# Altium footprint library TVI-30-RM6-LP.PcbLib: 13 footprints (part 2 of 3)
Each footprint in its own frame and in the unit in brackets; x right, y up, seen from the top. Pads: shape width x height; smd on the part's side, far side on the other; paste and mask are expansions set on the pad; w line width, h text height; cw(c..) or ccw(c..) is an arc to the next point about the centre after c.
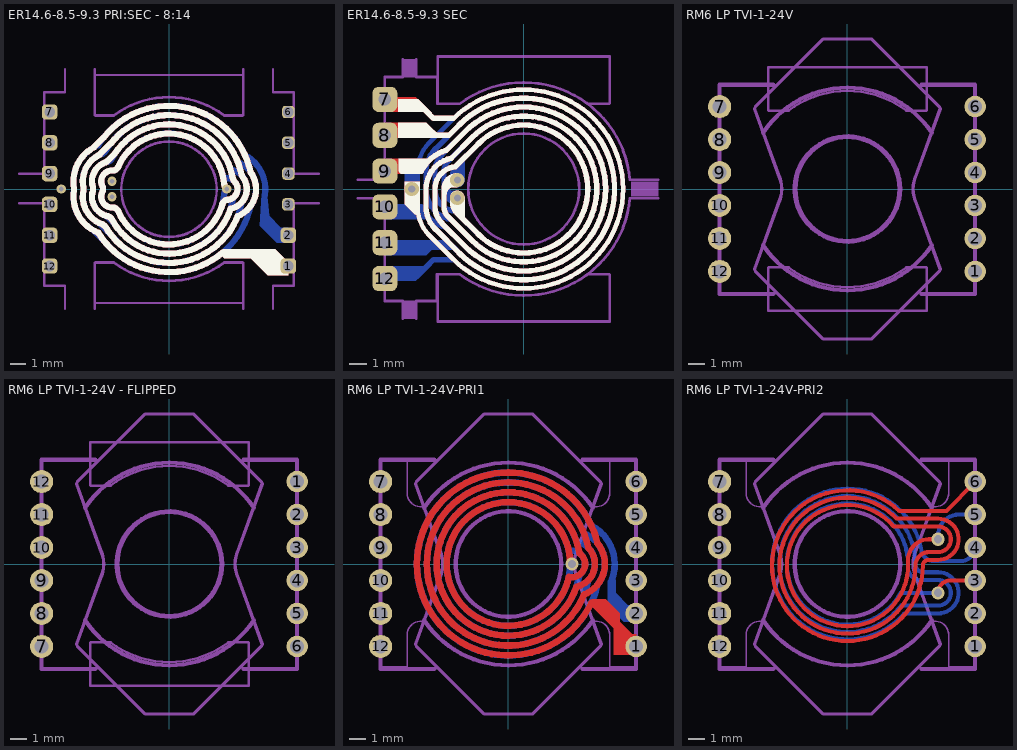
[diagram p1: the footprints below, top view; thin cyan lines are the x and y axes]

## ER14.6-8.5-9.3 PRI:SEC - 8:14 [mm]
pads (12):
  rrect50% 1x1 hole 0.7: 1(7.75,-5) 2(7.75,-3) 7(-7.75,5) 8(-7.75,3) 9(-7.75,1) 10(-7.75,-1) 11(-7.75,-3) 12(-7.75,-5)
  rrect50% 0.8x0.8 hole 0.7: 3(7.75,-1) 4(7.75,1) 5(7.75,3) 6(7.75,5)
via -3.7,0.5 diameter 0.6 hole 0.3
via 3.75,0 diameter 0.6 hole 0.3
via -7,0 diameter 0.6 hole 0.3
via -3.7,-0.5 diameter 0.6 hole 0.3
Top Layer:
  region: 3.5,-3.9 6.9,-3.9 7.75,-4.75 7.75,-5.6 6.4,-5.6 5.3,-4.5 3.6,-4.5 3.5,-4.4
  lines w0.4: -5.599,0.444 cw(c-3.7,0.5) -4.65,2.146 ; -5.585,0.742 ccw(c-3.7,0.5) -5.554,0.087 cw(c-5.945,0) -5.554,-0.087 ccw(c-3.7,-0.5) -4.33,-2.293 cw(c-4.462,-2.67) -4.119,-2.465 ccw(c0,0) -3.907,-2.789 ; -4.775,2.067 cw(c-3.7,0.5) -4.583,2.182 ccw(c-4.769,2.537) -4.486,2.254 -3.775,2.965 cw(c0,0) 3.101,3.664 cw(c0,0) 4.703,0.96 ; -3.932,-2.753 ccw(c0,0) 3.677,-3.085 ccw(c2.183,-1.591) 4.063,-2.556 ccw(c0,0) 4.466,-1.76 ccw(c3.75,0) 5.282,1.124 ccw(c0,0) 0.46,5.38 ccw(c0,0) -4.21,3.381 cw(c-4.522,3.632) -4.24,3.348 -4.666,2.922 -4.889,2.699 ccw(c-3.7,0.5) -6.199,0.426 ; 3.481,-4.128 cw(c0,0) -4.597,-2.833 cw(c-3.7,-0.5) -6.165,-0.081 ccw(c-6.559,-0.014) -6.165,0.058 cw(c-4.148,0.426) -6.199,0.426 ; 3.75,0 cw(c3.987,0.322) 3.588,0.29 ; -6.199,0.426 -6.199,0.426 ; -4.999,0.462 ccw(c-3.7,0.5) -4.942,0.118 cw(c-5.325,0) -4.942,-0.118 ; -4.999,0.462 cw(c-3.7,0.5) -4.156,1.717 ; -4.999,0.462 -4.999,0.462 ; -4.942,-0.118 ccw(c-3.7,-0.5) -4.099,-1.737 ccw(c-3.7,-0.5) -3.976,-1.77 cw(c-4.061,-2.161) -3.708,-1.973 ccw(c0,0) 4.002,-1.275 ccw(c3.75,0) 4.779,0.795 cw(c5.095,1.04) 4.703,0.96 ; -4.942,-0.118 -4.942,-0.118 ; -4.156,1.717 ccw(c-4.297,2.092) -4.014,1.809 -3.497,2.326 cw(c0,0) 4.141,0.704 ; -4.156,1.717 -4.156,1.717 ; -3.679,-1.2 cw(c-3.7,-0.5) -4.323,-0.182 ccw(c-4.68,0) -4.323,0.182 cw(c-3.7,0.5) -4.345,0.772 cw(c-3.7,0.5) -3.678,1.2 ccw(c-3.666,1.6) -3.3,1.44 cw(c0,0) 3.588,0.29 ; -3.679,-1.2 cw(c-3.666,-1.599) -3.3,-1.439 ccw(c0,0) 2.55,-2.541 ccw(c0,0) 3.462,-0.986 ; -3.679,-1.2 -3.679,-1.2 ; 3.462,-0.986 cw(c3.847,-1.096) 3.812,-0.697 ; 3.462,-0.986 3.462,-0.986 ; 3.588,0.29 3.588,0.29 ; 3.812,-0.697 ccw(c3.75,0) 4.25,0.49 ; 3.812,-0.697 3.812,-0.697 ; 4.141,0.704 ccw(c4.535,0.771) 4.25,0.49 ; 4.141,0.704 4.141,0.704 ; 4.25,0.49 4.25,0.49 ; 4.703,0.96 4.703,0.96 ; 2.438,-4.818 2.438,-4.818
  text "1-A" at 5.325,5 h1
  text "1-A" at 5.325,5 h1
Layer 1:
  region: -4.011,0.828 -4.034,0.805 -4.044,0.799 -4.051,0.789 -4.083,0.756 -4.101,0.714 -4.108,0.704 -4.11,0.692 -4.126,0.654 -4.132,0.644 -4.135,0.633 -4.152,0.59 -4.152,0.544 -4.155,0.532 -4.152,0.521 -4.152,0.48 -4.155,0.468 -4.152,0.456 -4.152,0.41 -4.135,0.367 -4.132,0.356 -4.126,0.346 -4.11,0.308 -4.108,0.296 -4.101,0.286 -4.083,0.244 -4.051,0.211 -4.044,0.201 -4.034,0.195 -4.005,0.166 -3.999,0.156 -3.989,0.149 -3.956,0.117 -3.937,0.108 -3.93,0.098 -3.929,0.098 -3.926,0.097 -3.915,0.09 -3.915,0.089 -3.914,0.089 -3.852,0.048 -3.805,0.038 -3.761,0.02 -3.336,0.02 -3.338,0 -3.323,-0.185 -3.323,-0.76 -3.426,-0.74 -3.592,-0.773 -3.591,-0.775 -3.592,-0.776 -3.594,-0.772 -3.7,-0.793 -3.726,-0.788 -3.727,-0.797 -3.726,-0.788 -3.812,-0.771 -3.907,-0.707 -3.971,-0.612 -3.993,-0.5 -3.98,-0.436 -3.992,-0.433 -3.992,-0.432 -3.992,-0.433 -3.972,-0.332 -4.008,-0.154 -4.109,-0.003 -4.132,0.012 -4.133,0.011 -4.13,0.014 -4.163,0.037 -4.274,0.202 -4.274,0.651 -4.056,0.87
  region: -3.034,1.371 -3.174,1.031 -3.297,0.522 -3.323,0.185 -3.761,0.185 -3.837,0.236 -3.837,0.235 -3.838,0.236 -3.834,0.244 -3.907,0.293 -3.971,0.388 -3.993,0.5 -3.971,0.612 -3.907,0.707 -3.812,0.771 -3.771,0.779 -3.774,0.79 -3.772,0.791 -3.772,0.79 -3.71,0.803 -3.674,0.827 -3.661,0.831 -3.54,0.9 -3.517,0.92 -3.44,0.971 -3.339,1.122 -3.334,1.148 -3.336,1.149 -3.336,1.15 -3.332,1.149 -3.179,1.517
  region: -5.898,0.063 -5.776,-0.34 -7.499,-0.34 -7.5,-0.34 -7.5,0.335 -5.925,0.335
  region: -4.945,-2.363 -4.558,-2.571 -4.399,-2.619 -4.394,-2.63 -4.378,-2.637 -4.059,-3.115 -3.618,-3.618 -3.538,-3.688 -3.55,-3.815 -7.8,-3.815 -7.8,-2.315 -5.004,-2.315
  region: -3.332,-4.342 -3.246,-4.399 -3.234,-4.525 -3.343,-4.634 -3.431,-4.575 -3.433,-4.578 -3.481,-4.546 -3.57,-4.528 -4.77,-4.528 -4.859,-4.546 -4.934,-4.596 -4.964,-4.626 -5.014,-4.701 -5.032,-4.79 -5.032,-5.565 -7.8,-5.565 -7.8,-3.98 -3.744,-3.98
  region: -5.577,-0.72 -5.565,-0.748 -5.548,-0.864 -5.548,-0.867 -5.44,-1.221 -5.266,-1.547 -5.032,-1.832 -4.814,-2.011 -4.821,-2.1 -4.94,-2.175 -4.953,-2.171 -5.004,-2.15 -7.8,-2.15 -7.8,-0.565 -5.66,-0.565
  lines w0.203: -7.75,-5 -7.75,-4.92 -7.363,-4.532 -7.363,-4.509 -7.244,-4.39 -3.518,-4.39 ccw(c0,0.3) 0,-5.563 ccw(c0,0) 5.011,-2.415 cw(c5.193,-2.505) 5.091,-2.329 ; -7.75,-3 ccw(c-7.412,-2.662) -7.412,-3.14 -6.994,-3.14 -4.239,-3.156 ; -7.75,-1 -6.195,-1 cw(c-6.195,-3.54) -5.708,-1.047 cw(c-5.748,-1.246) -5.557,-1.176 ccw(c-3.7,-0.5) -5.448,-1.422 ccw(c-3.7,-0.5) -4.286,-2.387 ccw(c-3.7,-0.5) -4.285,-2.388 cw(c-4.346,-2.582) -4.171,-2.477 ; -7,0 ccw(c-7,1.849) -6.137,0.214 ccw(c-6.233,0.393) -6.03,0.401 ; -4.965,0.481 ccw(c-3.7,0.5) -4.658,-0.327 cw(c-4.812,-0.459) -4.609,-0.466 ccw(c-3.7,-0.5) -3.657,-1.409 cw(c-3.648,-1.611) -3.462,-1.529 ccw(c0,0) -3.003,-2.304 ccw(c0,0) 3.506,-1.425 cw(c3.695,-1.5) 3.523,-1.391 ; -4.963,0.427 cw(c-3.7,0.5) -4.241,1.644 ccw(c-4.329,1.827) -4.142,1.747 cw(c0,0) -3.99,2.071 ; -3.973,2.103 cw(c0,0) -3.758,2.467 cw(c0,0) 4.22,1.551 cw(c3.75,0) 4.338,-1.51 ccw(c4.412,-1.7) 4.338,-1.511 cw(c3.75,0) 4.309,-1.521 ccw(c4.38,-1.712) 4.19,-1.64 cw(c3.523,-1.391) 4.175,-1.676 ccw(c4.362,-1.756) 4.172,-1.683 cw(c3.84,-1.557) 4.162,-1.706 ccw(c4.347,-1.79) 4.156,-1.723 ; -3.7,-0.5 cw(c-3.34,-0.14) -3.849,-0.161 ccw(c-4.052,-0.171) -3.957,0.009 cw(c-3.7,0.5) -3.837,1.037 ccw(c-3.888,1.233) -3.789,1.056 -3.668,1.125 ccw(c-3.77,1.301) -3.578,1.234 cw(c0,0) -3.375,1.712 cw(c0,0) -2.304,3.003 cw(c0,0) 3.636,1.052 ccw(c3.83,1.11) 3.814,0.907 cw(c3.75,0) 3.918,-0.894 ; -3.7,0.5 -3.324,0.876 ; 4.661,-1.754 cw(c3.75,0) 4.587,-1.791 ccw(c4.673,-1.974) 4.586,-1.791 ; 5.543,-1.491 cw(c3.75,0) 4.826,-2.069 ; 5.816,-1.719 cw(c3.75,0) 5.091,-2.329 ; -6.03,0.401 cw(c-3.7,0.5) -5.042,2.407 ccw(c-5.16,2.573) -4.979,2.481 cw(c0,0) -4.936,2.565 ; -6.03,0.401 -6.03,0.401 ; -4.936,2.565 cw(c-4.619,2.403) -4.932,2.572 ; -4.936,2.565 -4.936,2.565 ; -4.932,2.572 cw(c-3.99,2.071) -4.928,2.58 ccw(c-5.107,2.677) -4.926,2.585 cw(c-3.973,2.103) -4.916,2.603 cw(c0,0) 4.625,3.09 cw(c0,0) 5.011,2.415 ccw(c5.193,2.505) 5.091,2.329 cw(c3.75,0) 5.091,-2.329 ; -4.932,2.572 -4.932,2.572 ; -4.619,2.403 ccw(c0,0) -4.699,2.243 cw(c-4.882,2.331) -4.771,2.161 ccw(c-3.7,0.5) -5.342,-0.599 cw(c-5.512,-0.712) -5.31,-0.688 ccw(c-3.7,-0.5) -4.064,-2.079 cw(c-4.11,-2.277) -3.933,-2.178 ccw(c0,0) -2.022,-4.015 ccw(c0,0) 4.141,-1.751 cw(c4.327,-1.832) 4.156,-1.723 ; -4.619,2.403 cw(c-3.99,2.071) -4.613,2.414 ccw(c-4.792,2.512) -4.61,2.42 cw(c-3.973,2.103) -4.602,2.435 cw(c0,0) -4.48,2.653 cw(c0,0) -2.699,4.453 cw(c0,0) 4.736,2.163 ; -4.619,2.403 -4.619,2.403 ; -4.239,-3.156 cw(c-4.241,-3.359) -4.239,-3.156 ; -4.239,-3.156 -4.239,-3.156 ; -4.239,-3.156 cw(c-4.241,-3.359) -4.082,-3.233 ccw(c0,0) 1.13,-5.083 ccw(c0,0) 3.742,-3.621 ccw(c0,0) 4.736,-2.163 ; -4.171,-2.478 ccw(c0,0) -0.678,-4.804 ccw(c0,0) 4.456,-1.917 cw(c4.643,-1.999) 4.472,-1.888 4.53,-1.83 ; -4.171,-2.477 -4.171,-2.478 ; -3.324,0.876 ccw(c-3.497,0.983) -3.301,0.927 cw(c0,0) -3.298,0.938 cw(c0,0) -1.355,3.15 cw(c0,0) 3.359,0.69 ccw(c3.558,0.732) 3.608,0.536 cw(c3.75,0) 3.609,-0.536 ccw(c3.558,-0.732) 3.359,-0.69 cw(c0,0) -1.095,-3.249 cw(c0,0) -2.97,-1.715 cw(c0,0) -3.235,-1.138 ccw(c-3.426,-1.206) -3.499,-1.016 cw(c-3.7,-0.5) -3.75,-1.052 cw(c-3.7,-0.5) -4.24,-0.377 ccw(c-4.438,-0.332) -4.303,-0.181 cw(c-3.7,0.5) -4.609,0.485 cw(c-3.7,0.5) -3.99,1.362 ccw(c-4.056,1.554) -3.866,1.481 cw(c0,0) -3.675,1.907 cw(c0,0) 3.691,1.875 cw(c0,0) 3.911,1.358 ccw(c4.103,1.425) 4.053,1.228 cw(c3.75,0) 4.162,-1.196 cw(c3.75,0) 4.054,-1.228 ccw(c4.103,-1.425) 3.911,-1.358 cw(c0,0) 3.873,-1.463 ccw(c4.064,-1.533) 3.867,-1.481 cw(c3.523,-1.391) 3.862,-1.498 cw(c3.523,-1.391) 3.847,-1.539 ccw(c4.032,-1.622) 3.84,-1.557 ; -3.324,0.876 -3.324,0.876 ; 3.523,-1.391 cw(c3.723,-1.429) 3.533,-1.357 ccw(c0,0) 3.635,-1.052 cw(c3.83,-1.11) 3.815,-0.907 ccw(c3.75,0) 3.917,-0.894 ; 3.523,-1.391 3.523,-1.391 ; 3.84,-1.557 ccw(c4.011,-1.666) 3.823,-1.589 cw(c0,0) -2.664,-3.17 cw(c0,0) -3.696,-1.865 ccw(c-3.877,-1.958) -3.852,-1.756 cw(c-3.7,-0.5) -4.963,-0.573 ccw(c-5.166,-0.585) -5.002,-0.465 cw(c-3.7,0.5) -4.504,1.908 ccw(c-4.605,2.084) -4.42,1.999 cw(c0,0) -4.305,2.236 cw(c-3.99,2.071) -4.299,2.247 ccw(c-4.477,2.347) -4.294,2.257 cw(c-3.973,2.103) -4.288,2.268 cw(c0,0) -4.182,2.459 cw(c0,0) 4.057,2.661 cw(c0,0) 4.462,1.905 ccw(c4.648,1.986) 4.563,1.801 cw(c3.75,0) 4.586,-1.791 ; 3.84,-1.557 3.84,-1.557 ; 3.917,-0.894 ccw(c3.75,0) 3.918,-0.894 ; 4.156,-1.723 4.156,-1.723 ; 4.53,-1.83 cw(c4.673,-1.974) 4.586,-1.791 ; 4.53,-1.83 4.53,-1.83 ; 4.736,-2.163 cw(c4.921,-2.249) 4.826,-2.069 ; 4.736,-2.163 4.736,-2.163 ; 4.737,2.163 ccw(c4.921,2.249) 4.826,2.069 cw(c3.75,0) 4.826,-2.069 ; 4.736,2.163 ccw(c4.921,2.249) 4.737,2.163
Layer 2:
  region: -3.332,4.342 -3.246,4.399 -3.234,4.525 -3.343,4.634 -3.431,4.575 -3.433,4.578 -3.481,4.546 -3.57,4.528 -4.77,4.528 -4.859,4.546 -4.934,4.596 -4.964,4.626 -5.014,4.701 -5.032,4.79 -5.032,5.565 -7.8,5.565 -7.8,3.98 -3.744,3.98
  region: -4.945,2.363 -4.558,2.571 -4.399,2.619 -4.394,2.63 -4.378,2.637 -4.059,3.115 -3.618,3.618 -3.538,3.688 -3.55,3.815 -7.8,3.815 -7.8,2.315 -5.004,2.315
  region: -5.898,-0.063 -5.776,0.34 -7.499,0.34 -7.5,0.34 -7.5,-0.335 -5.925,-0.335
  region: -5.577,0.72 -5.565,0.748 -5.548,0.864 -5.548,0.867 -5.44,1.221 -5.266,1.547 -5.032,1.832 -4.814,2.011 -4.821,2.1 -4.94,2.175 -4.953,2.171 -5.004,2.15 -7.8,2.15 -7.8,0.565 -5.66,0.565
  region: -3.034,-1.371 -3.174,-1.031 -3.297,-0.522 -3.323,-0.185 -3.761,-0.185 -3.837,-0.236 -3.837,-0.235 -3.838,-0.236 -3.834,-0.244 -3.907,-0.293 -3.971,-0.388 -3.993,-0.5 -3.971,-0.612 -3.907,-0.707 -3.812,-0.771 -3.771,-0.779 -3.774,-0.79 -3.772,-0.791 -3.772,-0.79 -3.71,-0.803 -3.674,-0.827 -3.661,-0.831 -3.54,-0.9 -3.517,-0.92 -3.44,-0.971 -3.339,-1.122 -3.334,-1.148 -3.336,-1.149 -3.336,-1.15 -3.332,-1.149 -3.179,-1.517
  region: -4.011,-0.828 -4.034,-0.805 -4.044,-0.799 -4.051,-0.789 -4.083,-0.756 -4.101,-0.714 -4.108,-0.704 -4.11,-0.692 -4.126,-0.654 -4.132,-0.644 -4.135,-0.633 -4.152,-0.59 -4.152,-0.544 -4.155,-0.532 -4.152,-0.521 -4.152,-0.48 -4.155,-0.468 -4.152,-0.456 -4.152,-0.41 -4.135,-0.367 -4.132,-0.356 -4.126,-0.346 -4.11,-0.308 -4.108,-0.296 -4.101,-0.286 -4.083,-0.244 -4.051,-0.211 -4.044,-0.201 -4.034,-0.195 -4.005,-0.166 -3.999,-0.156 -3.989,-0.149 -3.956,-0.117 -3.937,-0.108 -3.93,-0.098 -3.929,-0.098 -3.926,-0.097 -3.915,-0.09 -3.915,-0.089 -3.914,-0.089 -3.852,-0.048 -3.805,-0.038 -3.761,-0.02 -3.336,-0.02 -3.338,0 -3.323,0.185 -3.323,0.76 -3.426,0.74 -3.592,0.773 -3.591,0.775 -3.592,0.776 -3.594,0.772 -3.7,0.793 -3.726,0.788 -3.727,0.797 -3.726,0.788 -3.812,0.771 -3.907,0.707 -3.971,0.612 -3.993,0.5 -3.98,0.436 -3.992,0.433 -3.992,0.432 -3.992,0.433 -3.972,0.332 -4.008,0.154 -4.109,0.003 -4.132,-0.012 -4.133,-0.011 -4.13,-0.014 -4.163,-0.037 -4.274,-0.202 -4.274,-0.651 -4.056,-0.87
  lines w0.203: -7.75,1 -6.195,1 ccw(c-6.195,3.54) -5.708,1.047 ccw(c-5.748,1.246) -5.557,1.176 cw(c-3.7,0.5) -5.448,1.422 cw(c-3.7,0.5) -4.286,2.387 cw(c-3.7,0.5) -4.285,2.388 ccw(c-4.346,2.582) -4.171,2.477 ; -7.75,3 cw(c-7.412,2.662) -7.412,3.14 -6.994,3.14 -4.239,3.156 ; -7.75,5 -7.75,4.92 -7.363,4.532 -7.363,4.509 -7.244,4.39 -3.518,4.39 cw(c0,-0.3) 0,5.563 cw(c0,0) 5.011,2.415 ccw(c5.193,2.505) 5.091,2.329 ; -7,0 cw(c-7,-1.849) -6.137,-0.214 cw(c-6.233,-0.393) -6.03,-0.401 ; -4.965,-0.481 cw(c-3.7,-0.5) -4.658,0.327 ccw(c-4.812,0.459) -4.609,0.466 cw(c-3.7,0.5) -3.657,1.409 ccw(c-3.648,1.611) -3.462,1.529 cw(c0,0) -3.003,2.304 cw(c0,0) 3.506,1.425 ccw(c3.695,1.5) 3.523,1.391 ; -4.963,-0.427 ccw(c-3.7,-0.5) -4.241,-1.644 cw(c-4.329,-1.827) -4.142,-1.747 ccw(c0,0) -3.99,-2.071 ; -3.973,-2.103 ccw(c0,0) -3.758,-2.467 ccw(c0,0) 4.22,-1.551 ccw(c3.75,0) 4.338,1.51 cw(c4.412,1.7) 4.338,1.511 ccw(c3.75,0) 4.309,1.521 cw(c4.38,1.712) 4.19,1.64 ccw(c3.523,1.391) 4.175,1.676 cw(c4.362,1.756) 4.172,1.683 ccw(c3.84,1.557) 4.162,1.706 cw(c4.347,1.79) 4.156,1.723 ; -3.7,-0.5 -3.324,-0.876 ; -3.7,0.5 ccw(c-3.34,0.14) -3.849,0.161 cw(c-4.052,0.171) -3.957,-0.009 ccw(c-3.7,-0.5) -3.837,-1.037 cw(c-3.888,-1.233) -3.789,-1.056 -3.668,-1.125 cw(c-3.77,-1.301) -3.578,-1.234 ccw(c0,0) -3.375,-1.712 ccw(c0,0) -2.304,-3.003 ccw(c0,0) 3.636,-1.052 cw(c3.83,-1.11) 3.814,-0.907 ccw(c3.75,0) 3.918,0.894 ; 4.661,1.754 ccw(c3.75,0) 4.587,1.791 cw(c4.673,1.974) 4.586,1.791 ; 5.543,1.491 ccw(c3.75,0) 4.826,2.069 ; 5.816,1.719 ccw(c3.75,0) 5.091,2.329 ; -6.03,-0.401 ccw(c-3.7,-0.5) -5.042,-2.407 cw(c-5.16,-2.573) -4.979,-2.481 ccw(c0,0) -4.936,-2.565 ; -6.03,-0.401 -6.03,-0.401 ; -4.936,-2.565 ccw(c-4.619,-2.403) -4.932,-2.572 ; -4.936,-2.565 -4.936,-2.565 ; -4.932,-2.572 ccw(c-3.99,-2.071) -4.928,-2.58 cw(c-5.107,-2.677) -4.926,-2.585 ccw(c-3.973,-2.103) -4.916,-2.603 ccw(c0,0) 4.625,-3.09 ccw(c0,0) 5.011,-2.415 cw(c5.193,-2.505) 5.091,-2.329 ccw(c3.75,0) 5.091,2.329 ; -4.932,-2.572 -4.932,-2.572 ; -4.619,-2.403 ccw(c-3.99,-2.071) -4.613,-2.414 cw(c-4.792,-2.512) -4.61,-2.42 ccw(c-3.973,-2.103) -4.602,-2.435 ccw(c0,0) -4.48,-2.653 ccw(c0,0) -2.699,-4.453 ccw(c0,0) 4.736,-2.163 ; -4.619,-2.403 cw(c0,0) -4.699,-2.243 ccw(c-4.882,-2.331) -4.771,-2.161 cw(c-3.7,-0.5) -5.342,0.599 ccw(c-5.512,0.712) -5.31,0.688 cw(c-3.7,0.5) -4.064,2.079 ccw(c-4.11,2.277) -3.933,2.178 cw(c0,0) -2.022,4.015 cw(c0,0) 4.141,1.751 ccw(c4.327,1.832) 4.156,1.723 ; -4.619,-2.403 -4.619,-2.403 ; -4.239,3.156 ccw(c-4.241,3.359) -4.239,3.156 ; -4.239,3.156 -4.239,3.156 ; -4.239,3.156 ccw(c-4.241,3.359) -4.082,3.233 cw(c0,0) 1.13,5.083 cw(c0,0) 3.742,3.621 cw(c0,0) 4.736,2.163 ; -4.171,2.478 cw(c0,0) -0.678,4.804 cw(c0,0) 4.456,1.917 ccw(c4.643,1.999) 4.472,1.888 4.53,1.83 ; -4.171,2.477 -4.171,2.478 ; -3.324,-0.876 cw(c-3.497,-0.983) -3.301,-0.927 ccw(c0,0) -3.298,-0.938 ccw(c0,0) -1.355,-3.15 ccw(c0,0) 3.359,-0.69 cw(c3.558,-0.732) 3.608,-0.536 ccw(c3.75,0) 3.609,0.536 cw(c3.558,0.732) 3.359,0.69 ccw(c0,0) -1.095,3.249 ccw(c0,0) -2.97,1.715 ccw(c0,0) -3.235,1.138 cw(c-3.426,1.206) -3.499,1.016 ccw(c-3.7,0.5) -3.75,1.052 ccw(c-3.7,0.5) -4.24,0.377 cw(c-4.438,0.332) -4.303,0.181 ccw(c-3.7,-0.5) -4.609,-0.485 ccw(c-3.7,-0.5) -3.99,-1.362 cw(c-4.056,-1.554) -3.866,-1.481 ccw(c0,0) -3.675,-1.907 ccw(c0,0) 3.691,-1.875 ccw(c0,0) 3.911,-1.358 cw(c4.103,-1.425) 4.053,-1.228 ccw(c3.75,0) 4.162,1.196 ccw(c3.75,0) 4.054,1.228 cw(c4.103,1.425) 3.911,1.358 ccw(c0,0) 3.873,1.463 cw(c4.064,1.533) 3.867,1.481 ccw(c3.523,1.391) 3.862,1.498 ccw(c3.523,1.391) 3.847,1.539 cw(c4.032,1.622) 3.84,1.557 ; -3.324,-0.876 -3.324,-0.876 ; 3.523,1.391 ccw(c3.723,1.429) 3.533,1.357 cw(c0,0) 3.635,1.052 ccw(c3.83,1.11) 3.815,0.907 cw(c3.75,0) 3.917,0.894 ; 3.523,1.391 3.523,1.391 ; 3.84,1.557 cw(c4.011,1.666) 3.823,1.589 ccw(c0,0) -2.664,3.17 ccw(c0,0) -3.696,1.865 cw(c-3.877,1.958) -3.852,1.756 ccw(c-3.7,0.5) -4.963,0.573 cw(c-5.166,0.585) -5.002,0.465 ccw(c-3.7,-0.5) -4.504,-1.908 cw(c-4.605,-2.084) -4.42,-1.999 ccw(c0,0) -4.305,-2.236 ccw(c-3.99,-2.071) -4.299,-2.247 cw(c-4.477,-2.347) -4.294,-2.257 ccw(c-3.973,-2.103) -4.288,-2.268 ccw(c0,0) -4.182,-2.459 ccw(c0,0) 4.057,-2.661 ccw(c0,0) 4.462,-1.905 cw(c4.648,-1.986) 4.563,-1.801 ccw(c3.75,0) 4.586,1.791 ; 3.84,1.557 3.84,1.557 ; 3.918,0.894 ccw(c3.75,0) 3.917,0.894 ; 4.156,1.723 4.156,1.723 ; 4.53,1.83 ccw(c4.673,1.974) 4.586,1.791 ; 4.53,1.83 4.53,1.83 ; 4.736,2.163 ccw(c4.921,2.249) 4.826,2.069 ; 4.736,2.163 4.736,2.163 ; 4.737,-2.163 cw(c4.921,-2.249) 4.826,-2.069 ccw(c3.75,0) 4.826,2.069 ; 4.737,-2.163 ccw(c4.921,-2.249) 4.736,-2.163
Bottom Layer:
  region: 6.026,-0.347 6.296,0.463 6.5,-1.75 7.25,-2.5 7.75,-2.5 7.75,-3.5 7,-3.5 5.9,-2.4
  lines w0.3: -7.75,-3 -7.5,-3.25
  lines w0.4: -5.599,-0.444 ccw(c-3.7,-0.5) -4.65,-2.146 ; -5.585,-0.742 cw(c-3.7,-0.5) -5.554,-0.087 ccw(c-5.945,0) -5.554,0.087 cw(c-3.7,0.5) -4.33,2.293 ccw(c-4.462,2.67) -4.119,2.465 cw(c0,0) -3.907,2.789 ; -4.775,-2.067 ccw(c-3.7,-0.5) -4.583,-2.182 cw(c-4.769,-2.537) -4.486,-2.254 -3.775,-2.965 ccw(c0,0) 3.101,-3.664 ccw(c0,0) 4.703,-0.96 ; -3.932,2.753 cw(c0,0) 3.677,3.085 cw(c2.183,1.591) 4.063,2.556 cw(c0,0) 4.466,1.76 cw(c3.75,0) 5.282,-1.124 cw(c0,0) 0.46,-5.38 cw(c0,0) -4.21,-3.381 ccw(c-4.522,-3.632) -4.24,-3.348 -4.666,-2.922 -4.889,-2.699 cw(c-3.7,-0.5) -6.199,-0.426 ; 3.75,0 ccw(c3.987,-0.322) 3.588,-0.29 ; 6.215,-0.42 ccw(c3.75,0) 4.93,2.204 ccw(c0,0) 4.591,2.843 ; 6.358,-1.958 6.7,-2.3 ; -6.199,-0.426 cw(c-4.148,-0.426) -6.165,-0.058 ccw(c-6.559,0.014) -6.165,0.081 cw(c-3.7,0.5) -4.597,2.833 cw(c0,0) 4.112,3.501 ; -6.199,-0.426 -6.199,-0.426 ; -4.999,-0.462 ccw(c-3.7,-0.5) -4.156,-1.717 ; -4.999,-0.462 cw(c-3.7,-0.5) -4.942,-0.118 ccw(c-5.325,0) -4.942,0.118 ; -4.999,-0.462 -4.999,-0.462 ; -4.942,0.118 cw(c-3.7,0.5) -4.099,1.737 cw(c-3.7,0.5) -3.976,1.77 ccw(c-4.061,2.161) -3.708,1.973 cw(c0,0) 4.002,1.275 cw(c3.75,0) 4.779,-0.795 ccw(c5.095,-1.04) 4.703,-0.96 ; -4.942,0.118 -4.942,0.118 ; -4.156,-1.717 cw(c-4.297,-2.092) -4.014,-1.809 -3.497,-2.326 ccw(c0,0) 4.141,-0.704 ; -4.156,-1.717 -4.156,-1.717 ; -3.679,1.2 ccw(c-3.666,1.599) -3.3,1.439 cw(c0,0) 2.55,2.541 cw(c0,0) 3.462,0.986 ; -3.679,1.2 ccw(c-3.7,0.5) -4.323,0.182 cw(c-4.68,0) -4.323,-0.182 ccw(c-3.7,-0.5) -4.345,-0.772 ccw(c-3.7,-0.5) -3.678,-1.2 cw(c-3.666,-1.6) -3.3,-1.44 ccw(c0,0) 3.588,-0.29 ; -3.679,1.2 -3.679,1.2 ; 3.462,0.986 ccw(c3.847,1.096) 3.812,0.697 ; 3.462,0.986 3.462,0.986 ; 3.588,-0.29 3.588,-0.29 ; 3.812,0.697 cw(c3.75,0) 4.25,-0.49 ; 3.812,0.697 3.812,0.697 ; 4.108,3.504 cw(c0,0) 4.112,3.501 ; 4.108,3.504 4.108,3.504 ; 4.112,3.501 ccw(c4.416,3.76) 4.129,3.481 ; 4.112,3.501 4.112,3.501 ; 4.129,3.481 cw(c2.183,1.591) 4.578,2.866 ; 4.129,3.481 4.129,3.481 ; 4.141,-0.704 cw(c4.535,-0.771) 4.25,-0.49 ; 4.141,-0.704 4.141,-0.704 ; 4.25,-0.49 4.25,-0.49 ; 4.578,2.866 ccw(c4.931,3.054) 4.591,2.843 ; 4.578,2.866 4.578,2.866 ; 4.591,2.843 4.591,2.843 ; 4.703,-0.96 4.703,-0.96 ; 2.438,4.818 2.438,4.818
  text "1-B" at 6.5,5 h1
  text "1-B" at 6.5,5 h1
Top Overlay:
  region: 3.5,-3.9 6.9,-3.9 7.75,-4.75 7.75,-5.6 6.4,-5.6 5.3,-4.5 3.6,-4.5 3.5,-4.4
  lines w0.4: -5.599,0.444 cw(c-3.7,0.5) -4.65,2.146 ; -5.585,0.742 ccw(c-3.7,0.5) -5.554,0.087 cw(c-5.945,0) -5.554,-0.087 ccw(c-3.7,-0.5) -4.33,-2.293 cw(c-4.462,-2.67) -4.119,-2.465 ccw(c0,0) -3.907,-2.789 ; -4.775,2.067 cw(c-3.7,0.5) -4.583,2.182 ccw(c-4.769,2.537) -4.486,2.254 -3.775,2.965 cw(c0,0) 3.101,3.664 cw(c0,0) 4.703,0.96 ; -3.932,-2.753 ccw(c0,0) 3.677,-3.085 ccw(c2.183,-1.591) 4.063,-2.556 ccw(c0,0) 4.466,-1.76 ccw(c3.75,0) 5.282,1.124 ccw(c0,0) 0.46,5.38 ccw(c0,0) -4.21,3.381 cw(c-4.522,3.632) -4.24,3.348 -4.666,2.922 -4.889,2.699 ccw(c-3.7,0.5) -6.199,0.426 ; 3.481,-4.128 cw(c0,0) -4.597,-2.833 cw(c-3.7,-0.5) -6.165,-0.081 ccw(c-6.559,-0.014) -6.165,0.058 cw(c-4.148,0.426) -6.199,0.426 ; 3.75,0 cw(c3.987,0.322) 3.588,0.29 ; -6.199,0.426 -6.199,0.426 ; -4.999,0.462 ccw(c-3.7,0.5) -4.942,0.118 cw(c-5.325,0) -4.942,-0.118 ; -4.999,0.462 cw(c-3.7,0.5) -4.156,1.717 ; -4.999,0.462 -4.999,0.462 ; -4.942,-0.118 ccw(c-3.7,-0.5) -4.099,-1.737 ccw(c-3.7,-0.5) -3.976,-1.77 cw(c-4.061,-2.161) -3.708,-1.973 ccw(c0,0) 4.002,-1.275 ccw(c3.75,0) 4.779,0.795 cw(c5.095,1.04) 4.703,0.96 ; -4.942,-0.118 -4.942,-0.118 ; -4.156,1.717 ccw(c-4.297,2.092) -4.014,1.809 -3.497,2.326 cw(c0,0) 4.141,0.704 ; -4.156,1.717 -4.156,1.717 ; -3.679,-1.2 cw(c-3.666,-1.599) -3.3,-1.439 ccw(c0,0) 2.55,-2.541 ccw(c0,0) 3.462,-0.986 ; -3.679,-1.2 cw(c-3.7,-0.5) -4.323,-0.182 ccw(c-4.68,0) -4.323,0.182 cw(c-3.7,0.5) -4.345,0.772 cw(c-3.7,0.5) -3.678,1.2 ccw(c-3.666,1.6) -3.3,1.44 cw(c0,0) 3.588,0.29 ; -3.679,-1.2 -3.679,-1.2 ; 3.462,-0.986 cw(c3.847,-1.096) 3.812,-0.697 ; 3.462,-0.986 3.462,-0.986 ; 3.588,0.29 3.588,0.29 ; 3.812,-0.697 ccw(c3.75,0) 4.25,0.49 ; 3.812,-0.697 3.812,-0.697 ; 4.141,0.704 ccw(c4.535,0.771) 4.25,0.49 ; 4.141,0.704 4.141,0.704 ; 4.25,0.49 4.25,0.49 ; 4.703,0.96 4.703,0.96 ; 2.438,-4.818 2.438,-4.818
Bottom Overlay:
  region: 6.026,-0.347 6.296,0.463 6.5,-1.75 7.25,-2.5 7.75,-2.5 7.75,-3.5 7,-3.5 5.9,-2.4
  lines w0.4: -5.599,-0.444 ccw(c-3.7,-0.5) -4.65,-2.146 ; -5.585,-0.742 cw(c-3.7,-0.5) -5.554,-0.087 ccw(c-5.945,0) -5.554,0.087 cw(c-3.7,0.5) -4.33,2.293 ccw(c-4.462,2.67) -4.119,2.465 cw(c0,0) -3.907,2.789 ; -4.775,-2.067 ccw(c-3.7,-0.5) -4.583,-2.182 cw(c-4.769,-2.537) -4.486,-2.254 -3.775,-2.965 ccw(c0,0) 3.101,-3.664 ccw(c0,0) 4.703,-0.96 ; -3.932,2.753 cw(c0,0) 3.677,3.085 cw(c2.183,1.591) 4.063,2.556 cw(c0,0) 4.466,1.76 cw(c3.75,0) 5.282,-1.124 cw(c0,0) 0.46,-5.38 cw(c0,0) -4.21,-3.381 ccw(c-4.522,-3.632) -4.24,-3.348 -4.666,-2.922 -4.889,-2.699 cw(c-3.7,-0.5) -6.199,-0.426 ; 3.75,0 ccw(c3.987,-0.322) 3.588,-0.29 ; 6.214,-0.42 ccw(c3.75,0) 4.93,2.204 ccw(c0,0) 4.591,2.843 ; 6.358,-1.958 6.7,-2.3 ; -6.199,-0.426 cw(c-4.148,-0.426) -6.165,-0.058 ccw(c-6.559,0.014) -6.165,0.081 cw(c-3.7,0.5) -4.597,2.833 cw(c0,0) 4.112,3.501 ; -6.199,-0.426 -6.199,-0.426 ; -4.999,-0.462 ccw(c-3.7,-0.5) -4.156,-1.717 ; -4.999,-0.462 cw(c-3.7,-0.5) -4.942,-0.118 ccw(c-5.325,0) -4.942,0.118 ; -4.999,-0.462 -4.999,-0.462 ; -4.942,0.118 cw(c-3.7,0.5) -4.099,1.737 cw(c-3.7,0.5) -3.976,1.77 ccw(c-4.061,2.161) -3.708,1.973 cw(c0,0) 4.002,1.275 cw(c3.75,0) 4.779,-0.795 ccw(c5.095,-1.04) 4.703,-0.96 ; -4.942,0.118 -4.942,0.118 ; -4.156,-1.717 cw(c-4.297,-2.092) -4.014,-1.809 -3.497,-2.326 ccw(c0,0) 4.141,-0.704 ; -4.156,-1.717 -4.156,-1.717 ; -3.679,1.2 ccw(c-3.666,1.599) -3.3,1.439 cw(c0,0) 2.55,2.541 cw(c0,0) 3.462,0.986 ; -3.679,1.2 ccw(c-3.7,0.5) -4.323,0.182 cw(c-4.68,0) -4.323,-0.182 ccw(c-3.7,-0.5) -4.345,-0.772 ccw(c-3.7,-0.5) -3.678,-1.2 cw(c-3.666,-1.6) -3.3,-1.44 ccw(c0,0) 3.588,-0.29 ; -3.679,1.2 -3.679,1.2 ; 3.462,0.986 ccw(c3.847,1.096) 3.812,0.697 ; 3.462,0.986 3.462,0.986 ; 3.588,-0.29 3.588,-0.29 ; 3.812,0.697 cw(c3.75,0) 4.25,-0.49 ; 3.812,0.697 3.812,0.697 ; 4.108,3.504 cw(c0,0) 4.112,3.501 ; 4.108,3.504 4.108,3.504 ; 4.112,3.501 ccw(c4.416,3.76) 4.129,3.481 ; 4.112,3.501 4.112,3.501 ; 4.129,3.481 cw(c2.183,1.591) 4.578,2.866 ; 4.129,3.481 4.129,3.481 ; 4.141,-0.704 cw(c4.535,-0.771) 4.25,-0.49 ; 4.141,-0.704 4.141,-0.704 ; 4.25,-0.49 4.25,-0.49 ; 4.578,2.866 ccw(c4.931,3.054) 4.591,2.843 ; 4.578,2.866 4.578,2.866 ; 4.591,2.843 4.591,2.843 ; 4.703,-0.96 4.703,-0.96 ; 2.438,4.818 2.438,4.818
Mechanical 2:
  circle w0.15: c0.001,-0.037 r3.1
  circle w0.15: c0.001,-0.037 r3.1
  lines w0.15: -9.74,-0.925 -8.1,-0.925 -8.1,-6.287 -6.749,-6.287 -6.749,-7.787 ; -9.74,1 -8.1,1 -8.1,6.287 -6.749,6.287 -6.749,7.787 ; -4.824,-7.787 -4.824,-6.287 -4.824,-4.797 -3.569,-4.797 ccw(c0.001,-0.037) 3.571,-4.797 4.826,-4.797 4.826,-6.287 4.826,-7.787 ; -4.824,7.787 -4.824,6.287 -4.824,4.797 -3.569,4.797 cw(c0.001,0.037) 3.571,4.797 4.826,4.797 4.826,6.287 4.826,7.787 ; 6.749,-7.787 6.749,-6.287 8.1,-6.287 8.1,-0.925 9.74,-0.925 ; 6.749,7.787 6.749,6.287 8.1,6.287 8.1,1 9.74,1
Mechanical 13:
  circle w0.15: c0,0 r3.1
  lines w0.15: -4.8,-7.4 4.8,-7.4 4.8,-4.79 4.77,-4.76 3.57,-4.76 cw(c0,0) -3.57,-4.76 -4.77,-4.76 -4.8,-4.79 -4.8,-7.4 ; -4.8,4.79 -4.8,7.4 4.8,7.4 4.8,4.79 4.77,4.76 3.57,4.76 ccw(c0,0) -3.57,4.76 -4.77,4.76 -4.8,4.79
3D body "ER14.6-8.5-9.3 (1).STEP": height 1.25, standoff -3, extent -4.7,-7.3 4.7,7.3

## ER14.6-8.5-9.3 SEC [mm]
pads (6):
  rrect50% 1.4x1.4 hole 0.7: 7(-7.75,5) 8(-7.75,3) 9(-7.75,1) 10(-7.75,-1) 11(-7.75,-3) 12(-7.75,-5)
via -6.25,0 diameter 0.8 hole 0.4
via -3.7,0.5 diameter 0.8 hole 0.4
via -3.7,-0.5 diameter 0.8 hole 0.4
Top Layer:
  region: -6.65,0.4 -5.8,0.4 -5.8,-1.2 -6.05,-1.45 -6.65,-0.85
  region: -3.7,-0.1 -3.62,-0.1 -3.473,-0.161 -3.361,-0.273 -3.3,-0.42 -3.3,-0.5 -3.3,-1.7 -3.425,-1.825 -3.829,-1.421 -3.894,-1.356 -3.995,-1.205 -4.064,-1.037 -4.1,-0.858 -4.1,-0.767 -4.1,-0.5 -4.1,-0.42 -4.039,-0.273 -3.927,-0.161 -3.78,-0.1
  region: -4.3,-0.3 -4.292,-0.222 -4.233,-0.078 -4.122,0.033 -3.978,0.092 -3.9,0.1 -3.7,0.1 -3.7,0.7 -4,0.7 -4.08,0.7 -4.227,0.639 -4.339,0.527 -4.4,0.38 -4.4,0.3 -4.4,-0.3
  region: -7.75,1.7 -5.386,1.7 -5.286,1.8 -5.286,1.576 -5.875,0.986 -7.736,0.986
  region: -7.75,4.3 -5.6,4.3 -5.136,3.836 -5.136,4.261 -5.888,5.014 -7.736,5.014
  region: -7.736,3.7 -5.436,3.7 -4.636,2.9 -7.336,2.9 -7.736,3.3
  lines w0.25: -5.95,-1 -5.95,0 ; -5.927,-0.99 ccw(c-3.677,-0.99) -5.268,-2.581 -3.924,-3.924 ccw(c0,0) 3.924,-3.924 ccw(c0,0) 3.924,3.924 ccw(c0,0) -3.924,3.924
  lines w0.3: -7.75,3 -4.177,3 -3.589,3.589 cw(c0,0) 3.589,3.589 cw(c0,0) 3.589,-3.589 cw(c0,0) -3.589,-3.589 -4.932,-2.245 ; -7.75,5 -6.086,5 -5.028,3.942 -3.942,3.942 ; -7.736,0.986 -5.722,0.986 cw(c-3.7,0) -4.32,2.163 ; -4.937,-2.237 cw(c-3.7,-1) -5.45,-1 -5.45,0 cw(c-3.7,0) -4.049,1.715 ; -4.584,-1.884 cw(c-3.7,-1) -4.95,-1 -4.95,0 cw(c-3.7,0) -3.809,1.245 ; -4.579,-1.892 -3.235,-3.235 ccw(c0,0) 3.235,-3.235 ccw(c0,0) 3.235,3.235 ccw(c0,0) -3.235,3.235 -4.296,2.174 ; -4.45,-0.225 -4.45,0 cw(c-3.7,0) -3.765,0.747 ; -4.23,-1.53 cw(c-3.7,-1) -4.45,-1 ; -4.225,-1.538 -2.881,-2.881 ccw(c0,0) 2.881,-2.881 ccw(c0,0) 2.881,2.881 ccw(c0,0) -2.881,2.881 ; -4.045,1.718 -2.878,2.885 ; -3.81,1.246 -2.528,2.528 cw(c0,0) 2.528,2.528 cw(c0,0) 2.528,-2.528 cw(c0,0) -2.528,-2.528 -3.7,-1.356 -3.7,-0.5 ; -3.7,-1.05 ccw(c-2.95,-1.05) -3.528,-1.528 ; -3.7,0.5 ccw(c-3.7,-0.25) -4.45,-0.25 -4.45,-1 ; -4.45,-1 -4.45,-1
  text "2-A" at -6.5,5.25 h1
Bottom Layer:
  region: -7.75,-4.3 -5.6,-4.3 -5.136,-3.836 -5.136,-4.261 -5.888,-5.014 -7.736,-5.014
  region: -7.75,-1.7 -5.386,-1.7 -5.286,-1.8 -5.286,-1.576 -5.875,-0.986 -7.736,-0.986
  region: -7.75,-4.3 -5.6,-4.3 -5.136,-3.836 -5.136,-4.261 -5.888,-5.014 -7.736,-5.014
  region: -7.736,-3.7 -5.436,-3.7 -4.636,-2.9 -7.336,-2.9 -7.736,-3.3
  region: -4.3,0.3 -4.292,0.222 -4.233,0.078 -4.122,-0.033 -3.978,-0.092 -3.9,-0.1 -3.7,-0.1 -3.7,-0.7 -4,-0.7 -4.08,-0.7 -4.227,-0.639 -4.339,-0.527 -4.4,-0.38 -4.4,-0.3 -4.4,0.3
  region: -3.7,0.1 -3.62,0.1 -3.473,0.161 -3.361,0.273 -3.3,0.42 -3.3,0.5 -3.3,1.7 -3.425,1.825 -3.829,1.421 -3.894,1.356 -3.995,1.205 -4.064,1.037 -4.1,0.858 -4.1,0.767 -4.1,0.5 -4.1,0.42 -4.039,0.273 -3.927,0.161 -3.78,0.1
  region: -6.65,-0.4 -5.8,-0.4 -5.8,1.2 -6.05,1.45 -6.65,0.85
  lines w0.25: -5.95,0 -5.95,1 ; -5.927,0.99 cw(c-3.677,0.99) -5.268,2.581 -3.924,3.924 cw(c0,0) 3.924,3.924 cw(c0,0) 3.924,-3.924 cw(c0,0) -3.924,-3.924
  lines w0.3: -7.75,-5 -6.086,-5 -5.028,-3.942 -3.942,-3.942 ; -7.736,-0.987 -5.722,-0.987 ccw(c-3.7,0) -4.32,-2.163 ; -4.937,2.237 ccw(c-3.7,1) -5.45,1 -5.45,0 ccw(c-3.7,0) -4.049,-1.715 ; -4.932,2.245 -3.589,3.588 cw(c0,0) 3.589,3.588 cw(c0,0) 3.589,-3.589 cw(c0,0) -3.589,-3.589 -3.927,-3.25 -7.5,-3.25 -7.75,-3 -4.177,-3 -3.758,-3.419 ; -4.584,1.884 ccw(c-3.7,1) -4.95,1 -4.95,0 ccw(c-3.7,0) -3.809,-1.245 ; -4.579,1.891 -3.235,3.235 cw(c0,0) 3.235,3.235 cw(c0,0) 3.235,-3.235 cw(c0,0) -3.235,-3.235 -4.296,-2.174 ; -4.45,0.225 -4.45,0 ccw(c-3.7,0) -3.765,-0.747 ; -4.23,1.53 ccw(c-3.7,1) -4.45,1 ; -4.225,1.538 -2.881,2.881 cw(c0,0) 2.881,2.881 cw(c0,0) 2.881,-2.882 cw(c0,0) -2.881,-2.882 ; -4.045,-1.718 -2.878,-2.885 ; -3.81,-1.246 -2.528,-2.528 ccw(c0,0) 2.528,-2.528 ccw(c0,0) 2.528,2.528 ccw(c0,0) -2.528,2.528 -3.7,1.356 -3.7,0.5 ; -3.7,-0.5 cw(c-3.7,0.25) -4.45,0.25 -4.45,1 ; -3.7,1.05 cw(c-2.95,1.05) -3.528,1.528 ; -4.45,1 -4.45,1
  text "2-B" at -5.25,5.25 h1
Top Overlay:
  region: -6.65,0.4 -5.8,0.4 -5.8,-1.2 -6.05,-1.45 -6.65,-0.85
  region: -6.977,1.7 -5.386,1.7 -5.286,1.8 -5.286,1.576 -5.875,0.986 -6.964,0.986
  region: -7,3.7 -5.436,3.7 -4.586,2.85 -7,2.85
  region: -7.013,4.3 -5.6,4.3 -5.136,3.836 -5.136,4.261 -5.875,5 -7,5
  region: -3.7,-0.1 -3.62,-0.1 -3.473,-0.161 -3.361,-0.273 -3.3,-0.42 -3.3,-0.5 -3.3,-1.7 -3.425,-1.825 -3.829,-1.421 -3.894,-1.356 -3.995,-1.205 -4.064,-1.037 -4.1,-0.858 -4.1,-0.767 -4.1,-0.5 -4.1,-0.42 -4.039,-0.273 -3.927,-0.161 -3.78,-0.1
  region: -4.3,-0.3 -4.292,-0.222 -4.233,-0.078 -4.122,0.033 -3.978,0.092 -3.9,0.1 -3.7,0.1 -3.7,0.7 -4,0.7 -4.08,0.7 -4.227,0.639 -4.339,0.527 -4.4,0.38 -4.4,0.3 -4.4,-0.3
  lines w0.25: -5.95,-1 -5.95,0 ; -5.927,-0.99 ccw(c-3.677,-0.99) -5.268,-2.581 -3.924,-3.924 ccw(c0,0) 3.924,-3.924 ccw(c0,0) 3.924,3.924 ccw(c0,0) -3.924,3.924
  lines w0.3: -6.8,0.986 -5.722,0.986 cw(c-3.7,0) -4.32,2.163 ; -6,3 -4.177,3 -3.589,3.589 cw(c0,0) 3.589,3.589 cw(c0,0) 3.589,-3.589 cw(c0,0) -3.589,-3.589 -4.932,-2.245 ; -5.136,4.048 -5.03,3.942 -3.942,3.942 ; -4.937,-2.237 cw(c-3.7,-1) -5.45,-1 -5.45,0 cw(c-3.7,0) -4.049,1.715 ; -4.584,-1.884 cw(c-3.7,-1) -4.95,-1 -4.95,0 cw(c-3.7,0) -3.809,1.245 ; -4.579,-1.892 -3.235,-3.235 ccw(c0,0) 3.235,-3.235 ccw(c0,0) 3.235,3.235 ccw(c0,0) -3.235,3.235 -4.296,2.174 ; -4.45,-0.225 -4.45,0 cw(c-3.7,0) -3.765,0.747 ; -4.23,-1.53 cw(c-3.7,-1) -4.45,-1 ; -4.225,-1.538 -2.881,-2.881 ccw(c0,0) 2.881,-2.881 ccw(c0,0) 2.881,2.881 ccw(c0,0) -2.881,2.881 ; -4.045,1.718 -2.878,2.885 ; -3.81,1.246 -2.528,2.528 cw(c0,0) 2.528,2.528 cw(c0,0) 2.528,-2.528 cw(c0,0) -2.528,-2.528 -3.7,-1.356 -3.7,-0.5 ; -3.7,-1.05 ccw(c-2.95,-1.05) -3.528,-1.528 ; -3.7,0.5 ccw(c-3.7,-0.25) -4.45,-0.25 -4.45,-1 ; -4.45,-1 -4.45,-1
Bottom Overlay:
  region: -4.3,0.3 -4.292,0.222 -4.233,0.078 -4.122,-0.033 -3.978,-0.092 -3.9,-0.1 -3.7,-0.1 -3.7,-0.7 -4,-0.7 -4.08,-0.7 -4.227,-0.639 -4.339,-0.527 -4.4,-0.38 -4.4,-0.3 -4.4,0.3
  region: -3.7,0.1 -3.62,0.1 -3.473,0.161 -3.361,0.273 -3.3,0.42 -3.3,0.5 -3.3,1.7 -3.425,1.825 -3.829,1.421 -3.894,1.356 -3.995,1.205 -4.064,1.037 -4.1,0.858 -4.1,0.767 -4.1,0.5 -4.1,0.42 -4.039,0.273 -3.927,0.161 -3.78,0.1
  region: -7.013,-4.3 -5.6,-4.3 -5.136,-3.836 -5.136,-4.261 -5.875,-5 -7,-5
  region: -7,-3.7 -5.436,-3.7 -4.586,-2.85 -7,-2.85
  region: -6.977,-1.7 -5.386,-1.7 -5.286,-1.8 -5.286,-1.576 -5.875,-0.986 -6.964,-0.986
  region: -6.65,-0.4 -5.8,-0.4 -5.8,1.2 -6.05,1.45 -6.65,0.85
  lines w0.25: -5.95,0 -5.95,1 ; -5.927,0.99 cw(c-3.677,0.99) -5.268,2.581 -3.924,3.924 cw(c0,0) 3.924,3.924 cw(c0,0) 3.924,-3.924 cw(c0,0) -3.924,-3.924
  lines w0.3: -6.8,-0.986 -5.722,-0.986 ccw(c-3.7,0) -4.32,-2.163 ; -6,-3 -4.177,-3 -3.589,-3.589 ccw(c0,0) 3.589,-3.589 ccw(c0,0) 3.589,3.589 ccw(c0,0) -3.589,3.589 -4.932,2.245 ; -5.136,-4.048 -5.03,-3.942 -3.942,-3.942 ; -4.937,2.237 ccw(c-3.7,1) -5.45,1 -5.45,0 ccw(c-3.7,0) -4.049,-1.715 ; -4.584,1.884 ccw(c-3.7,1) -4.95,1 -4.95,0 ccw(c-3.7,0) -3.809,-1.245 ; -4.579,1.892 -3.235,3.235 cw(c0,0) 3.235,3.235 cw(c0,0) 3.235,-3.235 cw(c0,0) -3.235,-3.235 -4.296,-2.174 ; -4.45,0.225 -4.45,0 ccw(c-3.7,0) -3.765,-0.747 ; -4.23,1.53 ccw(c-3.7,1) -4.45,1 ; -4.225,1.538 -2.881,2.881 cw(c0,0) 2.881,2.881 cw(c0,0) 2.881,-2.881 cw(c0,0) -2.881,-2.881 ; -4.045,-1.718 -2.878,-2.885 ; -3.81,-1.246 -2.528,-2.528 ccw(c0,0) 2.528,-2.528 ccw(c0,0) 2.528,2.528 ccw(c0,0) -2.528,2.528 -3.7,1.356 -3.7,0.5 ; -3.7,-0.5 cw(c-3.7,0.25) -4.45,0.25 -4.45,1 ; -3.7,1.05 cw(c-2.95,1.05) -3.528,1.528 ; -4.45,1 -4.45,1
Mechanical 1:
  region: 6,0.4 7.5,0.4 7.5,-0.4 6,-0.4
  region: -6.75,6.25 -6.75,7.25 -6,7.25 -6,6.25
  region: -6,-6.25 -6,-7.25 -6.75,-7.25 -6.75,-6.25
Mechanical 2:
  circle w0.15: c0,0 r3.1
  lines w0.15: -9.25,-0.515 -7.75,-0.515 -7.75,-6.25 -6.75,-6.25 -6.75,-7.25 ; -9.25,0.515 -7.75,0.515 -7.75,6.25 -6.75,6.25 -6.75,7.25 ; -6,-7.25 -6,-6.25 -4.825,-6.25 ; -6,7.25 -6,6.25 -4.825,6.25 -4.825,4.76 -3.57,4.76 cw(c0,0) 5.928,0.515 7.5,0.515 ; -4.85,-6.25 -4.85,-4.76 -3.57,-4.76 ccw(c0,0) 5.928,-0.515 7.5,-0.515
Mechanical 13:
  circle w0.15: c0,0 r3.1
  lines w0.15: -4.8,-7.4 4.8,-7.4 4.8,-4.79 4.77,-4.76 3.57,-4.76 cw(c0,0) -3.57,-4.76 -4.77,-4.76 -4.8,-4.79 -4.8,-7.4 ; -4.8,4.79 -4.8,7.4 4.8,7.4 4.8,4.79 4.77,4.76 3.57,4.76 ccw(c0,0) -3.57,4.76 -4.77,4.76 -4.8,4.79
3D body "ER14.6-8.5-9.3 (1).STEP": height 1.25, standoff -3, extent -4.7,-7.3 4.7,7.3

## RM6 LP TVI-1-24V [mm]
pads (12):
  round 1.3 hole 0.85: 1(7.75,-5) 2(7.75,-3) 3(7.75,-1) 4(7.75,1) 5(7.75,3) 6(7.75,5)
  round 1.4 hole 0.85: 7(-7.75,5) 8(-7.75,3) 9(-7.75,1) 10(-7.75,-1) 11(-7.75,-3) 12(-7.75,-5)
Mechanical 13:
  circle w0.254: c0,0 r3.2
  circle w0.15: c0,0 r3.1
  lines w0.15: -4.8,-7.4 -4.8,-4.79 -4.77,-4.76 -3.57,-4.76 ccw(c0,0) 3.57,-4.76 4.77,-4.76 4.8,-4.79 4.8,-7.4 -4.8,-7.4 ; -4.8,4.79 -4.77,4.76 -3.57,4.76 cw(c0,0) 3.57,4.76 4.77,4.76 4.8,4.79 4.8,7.4 -4.8,7.4 -4.8,4.79
  lines w0.2: -1.486,-9.1 1.486,-9.1 ; -1.486,-9.086 -5.577,-4.996 -5.635,-4.871 -4.103,-0.661 ; -1.486,9.086 -5.577,4.996 -5.635,4.871 -4.103,0.661 ; -1.486,9.1 1.486,9.1 ; 1.486,-9.086 5.577,-4.996 ; 1.486,9.086 5.577,4.996 ; -4.103,-0.707 ccw(c-5.982,-0.023) -4.103,0.661 ; -4.103,-0.707 ccw(c-5.982,-0.023) -4.103,0.661 ; -4.103,-0.707 ccw(c-5.982,-0.023) -4.103,0.661 ; -4.103,-0.707 ccw(c-5.982,-0.023) -4.103,0.661 ; -4.103,-0.661 ccw(c-5.982,0.023) -4.103,0.707 ; -4.103,-0.661 ccw(c-5.982,0.023) -4.103,0.707 ; -4.103,-0.661 ccw(c-5.982,0.023) -4.103,0.707 ; -4.103,-0.661 ccw(c-5.982,0.023) -4.103,0.707 ; 4.103,-0.707 cw(c5.982,-0.023) 4.103,0.661 ; 4.103,-0.707 cw(c5.982,-0.023) 4.103,0.661 ; 4.103,-0.707 cw(c5.982,-0.023) 4.103,0.661 ; 4.103,-0.707 cw(c5.982,-0.023) 4.103,0.661 ; 4.103,-0.661 cw(c5.982,0.023) 4.103,0.707 ; 4.103,-0.661 cw(c5.982,0.023) 4.103,0.707 ; 4.103,-0.661 cw(c5.982,0.023) 4.103,0.707 ; 4.103,-0.661 cw(c5.982,0.023) 4.103,0.707 ; 4.103,-0.661 5.49,-4.471 4.103,-0.661 ; 4.103,-0.661 5.635,-4.871 ; 4.103,0.661 5.635,4.871 ; 4.103,0.661 5.49,4.471 4.103,0.661 ; 5.577,-4.996 5.635,-4.871 ; 5.577,-4.996 5.635,-4.871 ; 5.577,4.996 5.635,4.871 ; 5.577,4.996 5.635,4.871
  lines w0.25: -4.5,-6.375 -7.75,-6.375 -7.75,6.323 -4.5,6.323 ; 4.5,-6.375 7.75,-6.375 7.75,6.323 4.5,6.323
  lines w0.254: -5.117,-3.411 ccw(c0,0) 5.117,-3.412 ; -5.117,3.411 cw(c0,0) 5.117,3.412
3D body "User Library-pls2-1.step": height 6.5, standoff -2.3, extent 6.75,4 8.75,6
3D body "User Library-pls2-1.step": height 6.5, standoff -2.3, extent 6.75,2 8.75,4
3D body "User Library-pls2-1.step": height 6.5, standoff -2.3, extent 6.75,0 8.75,2
3D body "User Library-pls2-1.step": height 6.5, standoff -2.3, extent 6.75,-2 8.75,0
3D body "User Library-pls2-1.step": height 6.5, standoff -2.3, extent 6.75,-4 8.75,-2
3D body "User Library-pls2-1.step": height 6.5, standoff -2.3, extent 6.75,-6 8.75,-4
3D body "User Library-pls2-1.step": height 6.5, standoff -2.3, extent -8.75,4 -6.75,6
3D body "User Library-pls2-1.step": height 6.5, standoff -2.3, extent -8.75,2 -6.75,4
3D body "User Library-pls2-1.step": height 6.5, standoff -2.3, extent -8.75,0 -6.75,2
3D body "User Library-pls2-1.step": height 6.5, standoff -2.3, extent -8.75,-2 -6.75,0
3D body "User Library-pls2-1.step": height 6.5, standoff -2.3, extent -8.75,-4 -6.75,-2
3D body "User Library-pls2-1.step": height 6.5, standoff -2.3, extent -8.75,-6 -6.75,-4
3D body: height 6.4, standoff 2.6, extent -8,-6 8,6
3D body "User Library-rm_6.step": height -0.5, standoff -5, extent -5.235,-8.9 5.235,9
3D body "User Library-rm_6.step": height 9, standoff 4.5, extent -5.235,-8.9 5.235,9

## RM6 LP TVI-1-24V - FLIPPED [mm]
pads (12):
  round 1.3 hole 0.85: 1(7.75,5) 2(7.75,3) 3(7.75,1) 4(7.75,-1) 5(7.75,-3) 6(7.75,-5)
  round 1.4 hole 0.85: 7(-7.75,-5) 8(-7.75,-3) 9(-7.75,-1) 10(-7.75,1) 11(-7.75,3) 12(-7.75,5)
Mechanical 13:
  circle w0.254: c0,0 r3.2
  circle w0.15: c0,0 r3.1
  lines w0.15: -4.8,-7.4 -4.8,-4.79 -4.77,-4.76 -3.57,-4.76 ccw(c0,0) 3.57,-4.76 4.77,-4.76 4.8,-4.79 4.8,-7.4 -4.8,-7.4 ; -4.8,4.79 -4.77,4.76 -3.57,4.76 cw(c0,0) 3.57,4.76 4.77,4.76 4.8,4.79 4.8,7.4 -4.8,7.4 -4.8,4.79
  lines w0.2: -1.486,-9.1 1.486,-9.1 ; -1.486,-9.086 -5.577,-4.996 -5.635,-4.871 -4.103,-0.661 ; -1.486,9.086 -5.577,4.996 -5.635,4.871 -4.103,0.661 ; -1.486,9.1 1.486,9.1 ; 1.486,-9.086 5.577,-4.996 ; 1.486,9.086 5.577,4.996 ; -4.103,-0.707 ccw(c-5.982,-0.023) -4.103,0.661 ; -4.103,-0.707 ccw(c-5.982,-0.023) -4.103,0.661 ; -4.103,-0.707 ccw(c-5.982,-0.023) -4.103,0.661 ; -4.103,-0.707 ccw(c-5.982,-0.023) -4.103,0.661 ; -4.103,-0.661 ccw(c-5.982,0.023) -4.103,0.707 ; -4.103,-0.661 ccw(c-5.982,0.023) -4.103,0.707 ; -4.103,-0.661 ccw(c-5.982,0.023) -4.103,0.707 ; -4.103,-0.661 ccw(c-5.982,0.023) -4.103,0.707 ; 4.103,-0.707 cw(c5.982,-0.023) 4.103,0.661 ; 4.103,-0.707 cw(c5.982,-0.023) 4.103,0.661 ; 4.103,-0.707 cw(c5.982,-0.023) 4.103,0.661 ; 4.103,-0.707 cw(c5.982,-0.023) 4.103,0.661 ; 4.103,-0.661 cw(c5.982,0.023) 4.103,0.707 ; 4.103,-0.661 cw(c5.982,0.023) 4.103,0.707 ; 4.103,-0.661 cw(c5.982,0.023) 4.103,0.707 ; 4.103,-0.661 cw(c5.982,0.023) 4.103,0.707 ; 4.103,-0.661 5.635,-4.871 ; 4.103,-0.661 5.49,-4.471 4.103,-0.661 ; 4.103,0.661 5.49,4.471 4.103,0.661 ; 4.103,0.661 5.635,4.871 ; 5.577,-4.996 5.635,-4.871 ; 5.577,-4.996 5.635,-4.871 ; 5.577,4.996 5.635,4.871 ; 5.577,4.996 5.635,4.871
  lines w0.25: -4.5,-6.375 -7.75,-6.375 -7.75,6.323 -4.5,6.323 ; 4.5,-6.375 7.75,-6.375 7.75,6.323 4.5,6.323
  lines w0.254: -5.117,-3.411 ccw(c0,0) 5.117,-3.412 ; -5.117,3.411 cw(c0,0) 5.117,3.412
3D body "User Library-rm_6.step": height 9, standoff 4.5, extent -5.235,-8.9 5.235,9
3D body "User Library-rm_6.step": height -0.5, standoff -5, extent -5.235,-8.9 5.235,9
3D body: height 6.4, standoff 2.6, extent -8,-6 8,6
3D body "User Library-pls2-1.step": height 6.5, standoff -2.3, extent -8.75,-6 -6.75,-4
3D body "User Library-pls2-1.step": height 6.5, standoff -2.3, extent -8.75,-4 -6.75,-2
3D body "User Library-pls2-1.step": height 6.5, standoff -2.3, extent -8.75,-2 -6.75,0
3D body "User Library-pls2-1.step": height 6.5, standoff -2.3, extent -8.75,0 -6.75,2
3D body "User Library-pls2-1.step": height 6.5, standoff -2.3, extent -8.75,2 -6.75,4
3D body "User Library-pls2-1.step": height 6.5, standoff -2.3, extent -8.75,4 -6.75,6
3D body "User Library-pls2-1.step": height 6.5, standoff -2.3, extent 6.75,-6 8.75,-4
3D body "User Library-pls2-1.step": height 6.5, standoff -2.3, extent 6.75,-4 8.75,-2
3D body "User Library-pls2-1.step": height 6.5, standoff -2.3, extent 6.75,-2 8.75,0
3D body "User Library-pls2-1.step": height 6.5, standoff -2.3, extent 6.75,0 8.75,2
3D body "User Library-pls2-1.step": height 6.5, standoff -2.3, extent 6.75,2 8.75,4
3D body "User Library-pls2-1.step": height 6.5, standoff -2.3, extent 6.75,4 8.75,6

## RM6 LP TVI-1-24V-PRI1 [mm]
pads (12):
  round 1.3 hole 0.85: 1(7.75,-5) 2(7.75,-3) 3(7.75,-1) 4(7.75,1) 5(7.75,3) 6(7.75,5)
  round 1.4 hole 0.85: 7(-7.75,5) 8(-7.75,3) 9(-7.75,1) 10(-7.75,-1) 11(-7.75,-3) 12(-7.75,-5)
via 3.85,0 diameter 0.8 hole 0.5
Top Layer:
  region: 6.4,-3.9 4.85,-2.35 5.05,-2.15 5.9,-2.15 6.75,-3 6.75,-3.5 7.5,-4.25 7.75,-4.25 7.75,-5.5 6.4,-5.5 6.4,-4.6
  lines w0.4: 3.75,0 ccw(c0,0) 0,3.75 ccw(c0,0) -3.75,0 ccw(c0,0) 3.668,-0.779 ccw(c3.85,0) 4.306,0.658 ; 4.126,-1.378 cw(c0,0) -4.35,0 cw(c0,0) 0,4.35 cw(c0,0) 4.285,0.747 ; 4.131,-1.371 ccw(c3.85,0) 4.858,0.972 ; 4.587,-1.861 cw(c0,0) -4.95,0 cw(c0,0) 0,4.95 cw(c0,0) 4.848,1 ; 4.603,-1.853 ccw(c3.85,0) 5.399,1.266 ; 5.028,-2.35 cw(c0,0) -5.55,0 cw(c0,0) 0,5.55 cw(c0,0) 5.403,1.269
Bottom Layer:
  region: 6.025,-1.951 6.025,-1.043 6.5,-0.916 6.5,-1.75 7.25,-2.5 7.75,-2.5 7.75,-3.5 7,-3.5 6.025,-2.525
  lines w0.4: 3.75,0 cw(c0,0) 0,-3.75 cw(c0,0) -3.75,0 cw(c0,0) 3.668,0.779 cw(c3.85,0) 4.306,-0.658 ; 4.126,1.378 ccw(c0,0) -4.35,0 ccw(c0,0) 0,-4.35 ccw(c0,0) 4.285,-0.747 ; 4.131,1.371 cw(c3.85,0) 4.858,-0.972 ; 4.587,1.861 ccw(c0,0) -4.95,0 ccw(c0,0) 0,-4.95 ccw(c0,0) 4.848,-1 ; 4.603,1.853 cw(c3.85,0) 5.399,-1.266 ; 5.045,2.314 ccw(c0,0) -5.55,0 ccw(c0,0) 0,-5.55 ccw(c0,0) 5.403,-1.269 ; 5.057,2.303 cw(c3.85,0) 6.221,-1.068
Mechanical 2:
  circle w0.102: c0,0 r3.275
  lines w0.102: -4.978,-3.556 ccw(c-5.329,-4.289) -6.142,-4.289 -6.142,-6.25 -7.75,-6.25 -7.75,0 -7.75,6.25 -6.142,6.25 -6.142,4.289 ccw(c-5.329,4.289) -4.978,3.556 ; -4.96,-3.543 ccw(c0,0) 4.961,-3.543 ; -4.96,3.543 cw(c0,0) 4.961,3.543 ; 4.978,-3.556 cw(c5.329,-4.289) 6.142,-4.289 6.142,-6.25 7.75,-6.25 7.75,0 7.75,6.25 6.142,6.25 6.142,4.289 cw(c5.329,4.289) 4.978,3.556
Mechanical 13:
  circle w0.254: c0,0 r3.2
  lines w0.2: -1.486,-9.1 1.486,-9.1 ; -1.486,-9.086 -5.577,-4.996 -5.635,-4.871 -4.103,-0.661 ; -1.486,9.086 -5.577,4.996 -5.635,4.871 -4.103,0.661 ; -1.486,9.1 1.486,9.1 ; 1.486,-9.086 5.577,-4.996 ; 1.486,9.086 5.577,4.996 ; -4.103,-0.707 ccw(c-5.982,-0.023) -4.103,0.661 ; -4.103,-0.707 ccw(c-5.982,-0.023) -4.103,0.661 ; -4.103,-0.707 ccw(c-5.982,-0.023) -4.103,0.661 ; -4.103,-0.707 ccw(c-5.982,-0.023) -4.103,0.661 ; -4.103,-0.661 ccw(c-5.982,0.023) -4.103,0.707 ; -4.103,-0.661 ccw(c-5.982,0.023) -4.103,0.707 ; -4.103,-0.661 ccw(c-5.982,0.023) -4.103,0.707 ; -4.103,-0.661 ccw(c-5.982,0.023) -4.103,0.707 ; 4.103,-0.707 cw(c5.982,-0.023) 4.103,0.661 ; 4.103,-0.707 cw(c5.982,-0.023) 4.103,0.661 ; 4.103,-0.707 cw(c5.982,-0.023) 4.103,0.661 ; 4.103,-0.707 cw(c5.982,-0.023) 4.103,0.661 ; 4.103,-0.661 cw(c5.982,0.023) 4.103,0.707 ; 4.103,-0.661 cw(c5.982,0.023) 4.103,0.707 ; 4.103,-0.661 cw(c5.982,0.023) 4.103,0.707 ; 4.103,-0.661 cw(c5.982,0.023) 4.103,0.707 ; 4.103,-0.661 5.635,-4.871 ; 4.103,-0.661 5.49,-4.471 4.103,-0.661 ; 4.103,0.661 5.49,4.471 4.103,0.661 ; 4.103,0.661 5.635,4.871 ; 5.577,-4.996 5.635,-4.871 ; 5.577,-4.996 5.635,-4.871 ; 5.577,4.996 5.635,4.871 ; 5.577,4.996 5.635,4.871
  lines w0.25: -4.5,-6.375 -7.75,-6.375 -7.75,6.323 -4.5,6.323 ; 4.5,-6.375 7.75,-6.375 7.75,6.323 4.5,6.323
  lines w0.254: -5.117,-3.411 ccw(c0,0) 5.117,-3.412 ; -5.117,3.411 cw(c0,0) 5.117,3.412
3D body "User Library-rm_6.step": height 4, standoff -0.5, extent -5.235,-8.9 5.235,9
3D body "User Library-rm_6.step": height 4, standoff -0.5, extent -5.235,-8.9 5.235,9

## RM6 LP TVI-1-24V-PRI2 [mm]
pads (12):
  round 1.3 hole 0.85: 1(7.75,-5) 2(7.75,-3) 3(7.75,-1) 4(7.75,1) 5(7.75,3) 6(7.75,5)
  round 1.4 hole 0.85: 7(-7.75,5) 8(-7.75,3) 9(-7.75,1) 10(-7.75,-1) 11(-7.75,-3) 12(-7.75,-5)
via 5.5,-1.75 diameter 0.8 hole 0.5
via 5.5,1.5 diameter 0.8 hole 0.5
Top Layer:
  lines w0.25: 3.145,3.223 ccw(c0,-0.1) -4.575,-0.1 ccw(c0,-0.1) 0,-4.675 ccw(c0,-0.1) 4.575,-0.1 cw(c4.925,-0.1) 4.925,0.25 5.5,0.25 ccw(c5.5,1.5) 5.5,2.75 4.608,2.75 2.982,2.75 2.978,2.755 ccw(c0,-0.1) -4.125,-0.1 ccw(c0,-0.1) 0,-4.225 ccw(c0,-0.1) 4.125,-0.1 cw(c4.95,-0.1) 4.95,0.725 5.5,0.725 ccw(c5.5,1.5) 5.5,2.275 4.457,2.275 2.808,2.275 2.783,2.301 ccw(c0,-0.1) -3.675,-0.1 ccw(c0,-0.1) 0,-3.775 ccw(c0,-0.1) 3.674,0.002 3.674,0.23 cw(c4.944,0.23) 4.944,1.5 5.5,1.5 cw(c5.4,1.5) 5.4,1.4 ; 3.147,3.225 6.006,3.225 7.75,4.969 7.75,5 ; 5.5,-1.75 cw(c6.25,-1.75) 6.25,-1 7.75,-1 ccw(c7.702,-1) 7.702,-0.952
Bottom Layer:
  lines w0.25: 5.4,-1.75 3.236,-1.742 cw(c0,0) -3.675,0 cw(c0,0) 0,3.675 cw(c0,0) 3.674,-0.102 3.674,-0.192 ccw(c4.457,-0.192) 4.457,-0.975 4.525,-0.975 5.5,-0.975 cw(c5.5,-1.75) 5.5,-2.525 4.457,-2.525 3.257,-2.531 cw(c0,0) -4.125,0 cw(c0,0) 0,4.125 cw(c0,0) 4.125,0 4.125,-0.017 ccw(c4.608,-0.017) 4.608,-0.5 5.5,-0.5 cw(c5.5,-1.75) 5.5,-3 4.608,-3 3.446,-3.017 3.331,-3.136 cw(c0,0) -4.575,0 cw(c0,0) 0,4.575 cw(c0,0) 4.475,0.952 ccw(c5.252,0.952) 5.252,0.175 6.877,0.175 ccw(c6.877,1) 7.702,1 ; 5.4,-1.65 cw(c5.4,-1.75) 5.5,-1.75 ; 5.5,1.5 5.5,1.73 cw(c6.77,1.73) 6.77,3 7.75,3 ; 7.702,0.952 ccw(c7.702,1) 7.75,1
Mechanical 2:
  circle w0.102: c0,0 r3.275
  lines w0.102: -4.978,-3.556 ccw(c-5.329,-4.289) -6.142,-4.289 -6.142,-6.25 -7.75,-6.25 -7.75,0 -7.75,6.25 -6.142,6.25 -6.142,4.289 ccw(c-5.329,4.289) -4.978,3.556 ; -4.96,-3.543 ccw(c0,0) 4.961,-3.543 ; -4.96,3.543 cw(c0,0) 4.961,3.543 ; 4.978,-3.556 cw(c5.329,-4.289) 6.142,-4.289 6.142,-6.25 7.75,-6.25 7.75,0 7.75,6.25 6.142,6.25 6.142,4.289 cw(c5.329,4.289) 4.978,3.556
Mechanical 13:
  circle w0.254: c0,0 r3.2
  lines w0.2: -1.486,-9.1 1.486,-9.1 ; -1.486,-9.086 -5.577,-4.996 -5.635,-4.871 -4.103,-0.661 ; -1.486,9.086 -5.577,4.996 -5.635,4.871 -4.103,0.661 ; -1.486,9.1 1.486,9.1 ; 1.486,-9.086 5.577,-4.996 ; 1.486,9.086 5.577,4.996 ; -4.103,-0.707 ccw(c-5.982,-0.023) -4.103,0.661 ; -4.103,-0.707 ccw(c-5.982,-0.023) -4.103,0.661 ; -4.103,-0.707 ccw(c-5.982,-0.023) -4.103,0.661 ; -4.103,-0.707 ccw(c-5.982,-0.023) -4.103,0.661 ; -4.103,-0.661 ccw(c-5.982,0.023) -4.103,0.707 ; -4.103,-0.661 ccw(c-5.982,0.023) -4.103,0.707 ; -4.103,-0.661 ccw(c-5.982,0.023) -4.103,0.707 ; -4.103,-0.661 ccw(c-5.982,0.023) -4.103,0.707 ; 4.103,-0.707 cw(c5.982,-0.023) 4.103,0.661 ; 4.103,-0.707 cw(c5.982,-0.023) 4.103,0.661 ; 4.103,-0.707 cw(c5.982,-0.023) 4.103,0.661 ; 4.103,-0.707 cw(c5.982,-0.023) 4.103,0.661 ; 4.103,-0.661 cw(c5.982,0.023) 4.103,0.707 ; 4.103,-0.661 cw(c5.982,0.023) 4.103,0.707 ; 4.103,-0.661 cw(c5.982,0.023) 4.103,0.707 ; 4.103,-0.661 cw(c5.982,0.023) 4.103,0.707 ; 4.103,-0.661 5.635,-4.871 ; 4.103,-0.661 5.49,-4.471 4.103,-0.661 ; 4.103,0.661 5.49,4.471 4.103,0.661 ; 4.103,0.661 5.635,4.871 ; 5.577,-4.996 5.635,-4.871 ; 5.577,-4.996 5.635,-4.871 ; 5.577,4.996 5.635,4.871 ; 5.577,4.996 5.635,4.871
  lines w0.25: -4.5,-6.375 -7.75,-6.375 -7.75,6.323 -4.5,6.323 ; 4.5,-6.375 7.75,-6.375 7.75,6.323 4.5,6.323
  lines w0.254: -5.117,-3.411 ccw(c0,0) 5.117,-3.412 ; -5.117,3.411 cw(c0,0) 5.117,3.412
3D body "User Library-rm_6.step": height 4, standoff -0.5, extent -5.235,-8.9 5.235,9
3D body "User Library-rm_6.step": height 4, standoff -0.5, extent -5.235,-8.9 5.235,9